# Altium schematic symbol library Silicon Die Holders.SchLib: 2 symbols
Pins are listed as number, name and electrical type; pins without a type are passive.

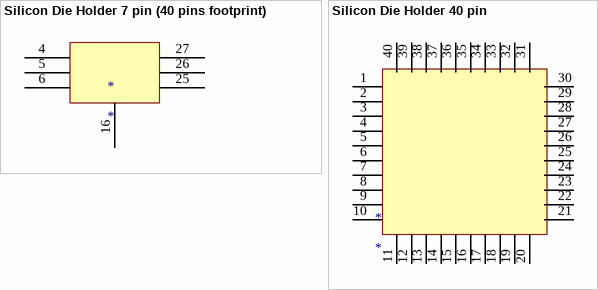
[diagram p0: symbols Silicon Die Holder 7 pin (40 pins footprint) to Silicon Die Holder 40 pin]

## Silicon Die Holder 7 pin (40 pins footprint)
designator *
A silicon die holder with 7 connections.
pins: 4, 5, 6, 16, 25, 26, 27

## Silicon Die Holder 40 pin
designator *
pins: 1, 2, 3, 4, 5, 6, 7, 8, 9, 10, 11, 12, 13, 14, 15, 16, 17, 18, 19, 20, 21, 22, 23, 24, 25, 26, 27, 28, 29, 30, 31, 32, 33, 34, 35, 36, 37, 38, 39, 40